# Altium footprint library 5sot23.PcbLib: 1 footprints
Each footprint in its own frame and in the unit in brackets; x right, y up, seen from the top. Pads: shape width x height; smd on the part's side, far side on the other; paste and mask are expansions set on the pad; w line width, h text height; cw(c..) or ccw(c..) is an arc to the next point about the centre after c.
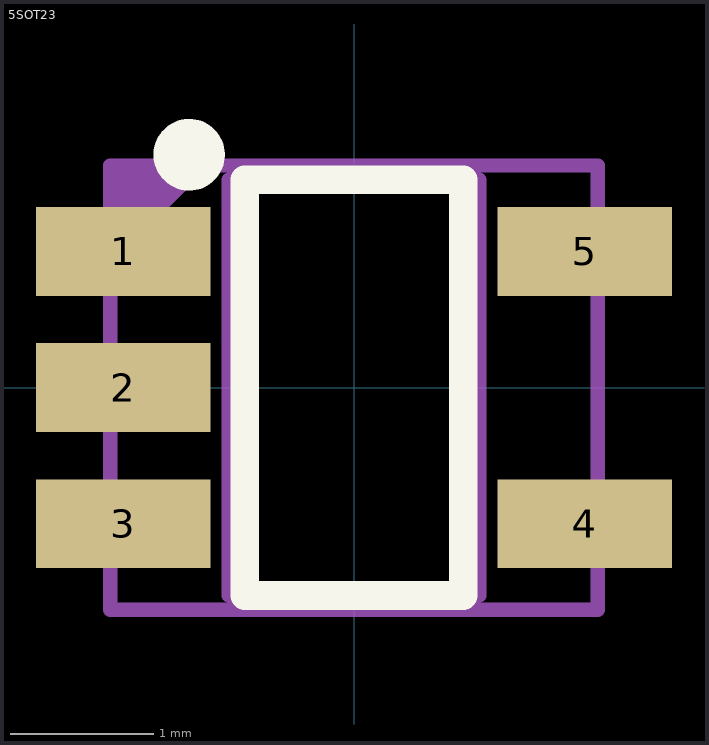
[diagram p0: the footprint, top view; thin cyan lines are the x and y axes]

## 5SOT23 [mm] "SOT23, 5-Leads, Body 2.9x2.8mm (max), Pitch 0.95mm, IPC High Density"
height 1
pads (5):
  rect 1.22x0.62 smd: 1(-1.61,0.95) 2(-1.61,0) 3(-1.61,-0.95) 4(1.61,-0.95) 5(1.61,0.95)
Top Overlay:
  circle w0.25: c-1.15,1.625 r0.125
  lines w0.2: -0.762,-1.45 -0.762,1.45 0.762,1.45 0.762,-1.45 -0.762,-1.45
Top 3D Body:
  lines w0.1: -0.875,-1.45 0.875,-1.45 0.875,1.45 -0.875,1.45 -0.875,-1.45
Top Courtyard:
  region: -1.7,1.55 -1,1.55 -1.7,0.85
  lines w0.1: -1.7,-1.55 1.7,-1.55 1.7,1.55 -1.7,1.55 -1.7,-1.55
Top Designator (Mech17):
  text ".Designator" at -0.2,1.3 h0.6
3D body "User Library-SOT-23-5.STEP": height 1.46, standoff 0, extent -1.5,-1.5 1.5,1.5